# Altium schematic symbol library JST.SchLib: 1 symbol
Pins are listed as number, name and electrical type; pins without a type are passive.

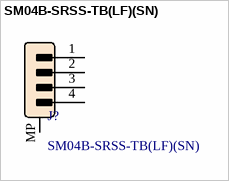
[diagram p0: symbol SM04B-SRSS-TB(LF)(SN)]

## SM04B-SRSS-TB(LF)(SN)
designator J?
CONN HEADER SH 4POS SIDE 1MM TIN; Manufacturer 1: JST; Category 1: Connectors; Supplier 1: LCSC; Supplier Part Number 1: C160404; Manufacturer Part Number 1: SM04B-SRSS-TB(LF)(SN); RoHS 1: Yes; Description 1: CONN HEADER SH 4POS SIDE 1MM TIN; Stock 1: 227040; Pricing 1: 5=0.17540, 50=0.14200, 150=0.12770, 500=0.09670, 3000=0.08970, 6000=0.08550 (USD); ComponentLink1URL: https://datasheet.ciiva.com/26894/getdatasheetpartid-640736-26894676.pdf?src-supplier=Verical; ComponentLink1Description: https://datasheet.ciiva.com/26894/getdatasheetpartid-640736-26894676.pdf?src-supplier=Verical; ComponentLink2URL: https://datasheet.ciiva.com/26894/getdatasheetpartid-499363-26894945.pdf?src-supplier=Verical; ComponentLink2Description: https://datasheet.ciiva.com/26894/getdatasheetpartid-499363-26894945.pdf?src-supplier=Verical; ComponentLink3URL: https://datasheet.ciiva.com/16487/jstsm04b-srss-tb-lf-sn-16487222.pdf?src-supplier=Future+Electronics; ComponentLink3Description: https://datasheet.ciiva.com/16487/jstsm04b-srss-tb-lf-sn-16487222.pdf?src-supplier=Future+Electronics
footprint SM04B-SRSS-TB_1x04-1MP_P1.00mm_Horizontal (Connector Header, Side Entry, SR Series, 4 Position, 1.00mm, 50V, Surface Mount, Tin, Natural)
pins: 1, 2, 3, 4, MP MountPin